# Altium footprint library RP2350A.PcbLib: 3 footprints
Each footprint in its own frame and in the unit in brackets; x right, y up, seen from the top. Pads: shape width x height; smd on the part's side, far side on the other; paste and mask are expansions set on the pad; w line width, h text height; cw(c..) or ccw(c..) is an arc to the next point about the centre after c.
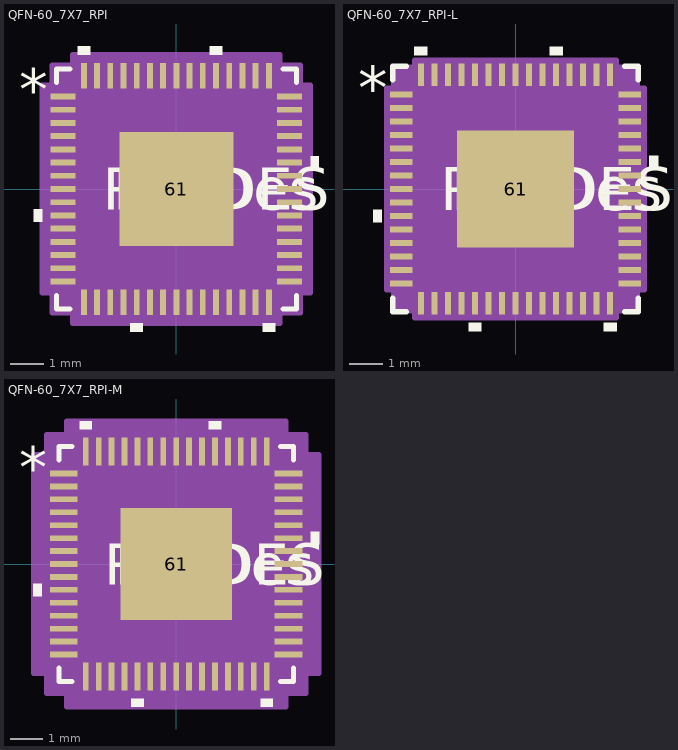
[diagram p0: the footprints below, top view; thin cyan lines are the x and y axes]

## QFN-60_7X7_RPI [mil]
pads (61):
  rect 30x7 smd paste+0 mask+0: 1(-135,110.24) 2(-135,94.49) 3(-135,78.74) 4(-135,62.99) 5(-135,47.24) 6(-135,31.5) 7(-135,15.75) 8(-135,0) 9(-135,-15.75) 10(-135,-31.5) 11(-135,-47.24) 12(-135,-62.99) 13(-135,-78.74) 14(-135,-94.49) 15(-135,-110.24) 31(135,-110.24) 32(135,-94.49) 33(135,-78.74) 34(135,-62.99) 35(135,-47.24) 36(135,-31.5) 37(135,-15.75) 38(135,0) 39(135,15.75) 40(135,31.5) 41(135,47.24) 42(135,62.99) 43(135,78.74) 44(135,94.49) 45(135,110.24)
  rect 7x30 smd paste+0 mask+0: 16(-110.24,-135) 17(-94.49,-135) 18(-78.74,-135) 19(-62.99,-135) 20(-47.24,-135) 21(-31.5,-135) 22(-15.75,-135) 23(0,-135) 24(15.75,-135) 25(31.5,-135) 26(47.24,-135) 27(62.99,-135) 28(78.74,-135) 29(94.49,-135) 30(110.24,-135) 46(110.24,135) 47(94.49,135) 48(78.74,135) 49(62.99,135) 50(47.24,135) 51(31.5,135) 52(15.75,135) 53(0,135) 54(-15.75,135) 55(-31.5,135) 56(-47.24,135) 57(-62.99,135) 58(-78.74,135) 59(-94.49,135) 60(-110.24,135)
  rect 136x136 smd paste-68 mask+0: 61(0,0)
Top Overlay:
  region: -160,-24 -170,-24 -170,-39 -160,-39
  region: -39.74,-160 -54.74,-160 -54.74,-170 -39.74,-170
  region: 117.74,-160 102.74,-160 102.74,-170 117.74,-170
  region: 160,39 170,39 170,24 160,24
  region: 54.74,160 39.74,160 39.74,170 54.74,170
  region: -102.74,160 -117.74,160 -117.74,170 -102.74,170
  lines w6: -143,-126.84 -143,-143 -126.84,-143 ; -143,126.84 -143,143 -126.84,143 ; 126.84,-143 143,-143 143,-126.84 ; 126.84,143 143,143 143,126.84
  text "*" at -187.5,93.11 h50
  text "RefDes" at -75,-25 h50
  text "REFDES" at -87.5,-25 h50
Top Paste:
  region: -3.94,64.06 -64.06,64.06 -64.06,3.94 -3.94,3.94
  region: -3.94,-3.94 -64.06,-3.94 -64.06,-64.06 -3.94,-64.06
  region: 64.06,64.06 3.94,64.06 3.94,3.94 64.06,3.94
  region: 64.06,-3.94 3.94,-3.94 3.94,-64.06 64.06,-64.06
Mechanical 13:
  drawing of 249 lines, arcs and shapes, not listed
  text "*" at -132.5,93.11 h50
  text "RefDes2" at -87.5,-25 h50
Mechanical 15:
  region: -123.74,-148 -148,-148 -148,-123.74 -160,-123.74 -160,123.74 -148,123.74 -148,148 -123.74,148 -123.74,160 123.74,160 123.74,148 148,148 148,123.74 160,123.74 160,-123.74 148,-123.74 148,-148 123.74,-148 123.74,-160 -123.74,-160
  lines w6: -160,-123.74 -148,-123.74 -148,-148 -123.74,-148 -123.74,-160 123.74,-160 123.74,-148 148,-148 148,-123.74 160,-123.74 160,123.74 148,123.74 148,148 123.74,148 123.74,160 -123.74,160 -123.74,148 -148,148 -148,123.74 -160,123.74 -160,-123.74
3D body "QFN-60_7X7_RPI.step": height 35.12, standoff 0, extent -137.99,-137.99 137.99,137.99

## QFN-60_7X7_RPI-L [mil]
pads (61):
  rect 26x7 smd paste+0 mask+0: 1(-133,110.24) 2(-133,94.49) 3(-133,78.74) 4(-133,62.99) 5(-133,47.24) 6(-133,31.5) 7(-133,15.75) 8(-133,0) 9(-133,-15.75) 10(-133,-31.5) 11(-133,-47.24) 12(-133,-62.99) 13(-133,-78.74) 14(-133,-94.49) 15(-133,-110.24) 31(133,-110.24) 32(133,-94.49) 33(133,-78.74) 34(133,-62.99) 35(133,-47.24) 36(133,-31.5) 37(133,-15.75) 38(133,0) 39(133,15.75) 40(133,31.5) 41(133,47.24) 42(133,62.99) 43(133,78.74) 44(133,94.49) 45(133,110.24)
  rect 7x26 smd paste+0 mask+0: 16(-110.24,-133) 17(-94.49,-133) 18(-78.74,-133) 19(-62.99,-133) 20(-47.24,-133) 21(-31.5,-133) 22(-15.75,-133) 23(0,-133) 24(15.75,-133) 25(31.5,-133) 26(47.24,-133) 27(62.99,-133) 28(78.74,-133) 29(94.49,-133) 30(110.24,-133) 46(110.24,133) 47(94.49,133) 48(78.74,133) 49(62.99,133) 50(47.24,133) 51(31.5,133) 52(15.75,133) 53(0,133) 54(-15.75,133) 55(-31.5,133) 56(-47.24,133) 57(-62.99,133) 58(-78.74,133) 59(-94.49,133) 60(-110.24,133)
  rect 136x136 smd paste-68 mask+0: 61(0,0)
Top Overlay:
  region: -156,-24 -166,-24 -166,-39 -156,-39
  region: -39.74,-156 -54.74,-156 -54.74,-166 -39.74,-166
  region: 117.74,-156 102.74,-156 102.74,-166 117.74,-166
  region: 156,39 166,39 166,24 156,24
  region: 54.74,156 39.74,156 39.74,166 54.74,166
  region: -102.74,156 -117.74,156 -117.74,166 -102.74,166
  lines w6: -143,-126.84 -143,-143 -126.84,-143 ; -143,126.84 -143,143 -126.84,143 ; 126.84,-143 143,-143 143,-126.84 ; 126.84,143 143,143 143,126.84
  text "*" at -183.5,93.11 h50
  text "RefDes" at -75,-25 h50
  text "REFDES" at -87.5,-25 h50
Top Paste:
  region: -3.94,64.06 -64.06,64.06 -64.06,3.94 -3.94,3.94
  region: -3.94,-3.94 -64.06,-3.94 -64.06,-64.06 -3.94,-64.06
  region: 64.06,64.06 3.94,64.06 3.94,3.94 64.06,3.94
  region: 64.06,-3.94 3.94,-3.94 3.94,-64.06 64.06,-64.06
Mechanical 13:
  drawing of 249 lines, arcs and shapes, not listed
  text "*" at -132.5,93.11 h50
  text "RefDes2" at -87.5,-25 h50
Mechanical 15:
  region: -117.74,-142 -142,-142 -142,-117.74 -150,-117.74 -150,117.74 -142,117.74 -142,142 -117.74,142 -117.74,150 117.74,150 117.74,142 142,142 142,117.74 150,117.74 150,-117.74 142,-117.74 142,-142 117.74,-142 117.74,-150 -117.74,-150
  lines w6: -150,-117.74 -142,-117.74 -142,-142 -117.74,-142 -117.74,-150 117.74,-150 117.74,-142 142,-142 142,-117.74 150,-117.74 150,117.74 142,117.74 142,142 117.74,142 117.74,150 -117.74,150 -117.74,142 -142,142 -142,117.74 -150,117.74 -150,-117.74
3D body "QFN-60_7X7_RPI.step": height 35.12, standoff 0, extent -137.99,-137.99 137.99,137.99

## QFN-60_7X7_RPI-M [mil]
pads (61):
  rect 34x7 smd paste+0 mask+0: 1(-137,110.24) 2(-137,94.49) 3(-137,78.74) 4(-137,62.99) 5(-137,47.24) 6(-137,31.5) 7(-137,15.75) 8(-137,0) 9(-137,-15.75) 10(-137,-31.5) 11(-137,-47.24) 12(-137,-62.99) 13(-137,-78.74) 14(-137,-94.49) 15(-137,-110.24) 31(137,-110.24) 32(137,-94.49) 33(137,-78.74) 34(137,-62.99) 35(137,-47.24) 36(137,-31.5) 37(137,-15.75) 38(137,0) 39(137,15.75) 40(137,31.5) 41(137,47.24) 42(137,62.99) 43(137,78.74) 44(137,94.49) 45(137,110.24)
  rect 7x34 smd paste+0 mask+0: 16(-110.24,-137) 17(-94.49,-137) 18(-78.74,-137) 19(-62.99,-137) 20(-47.24,-137) 21(-31.5,-137) 22(-15.75,-137) 23(0,-137) 24(15.75,-137) 25(31.5,-137) 26(47.24,-137) 27(62.99,-137) 28(78.74,-137) 29(94.49,-137) 30(110.24,-137) 46(110.24,137) 47(94.49,137) 48(78.74,137) 49(62.99,137) 50(47.24,137) 51(31.5,137) 52(15.75,137) 53(0,137) 54(-15.75,137) 55(-31.5,137) 56(-47.24,137) 57(-62.99,137) 58(-78.74,137) 59(-94.49,137) 60(-110.24,137)
  rect 136x136 smd paste-68 mask+0: 61(0,0)
Top Overlay:
  region: -164,-24 -174,-24 -174,-39 -164,-39
  region: -39.74,-164 -54.74,-164 -54.74,-174 -39.74,-174
  region: 117.74,-164 102.74,-164 102.74,-174 117.74,-174
  region: 164,39 174,39 174,24 164,24
  region: 54.74,164 39.74,164 39.74,174 54.74,174
  region: -102.74,164 -117.74,164 -117.74,174 -102.74,174
  lines w6: -143,-126.84 -143,-143 -126.84,-143 ; -143,126.84 -143,143 -126.84,143 ; 126.84,-143 143,-143 143,-126.84 ; 126.84,143 143,143 143,126.84
  text "*" at -191.5,93.11 h50
  text "RefDes" at -75,-25 h50
  text "REFDES" at -87.5,-25 h50
Top Paste:
  region: -3.94,64.06 -64.06,64.06 -64.06,3.94 -3.94,3.94
  region: -3.94,-3.94 -64.06,-3.94 -64.06,-64.06 -3.94,-64.06
  region: 64.06,64.06 3.94,64.06 3.94,3.94 64.06,3.94
  region: 64.06,-3.94 3.94,-3.94 3.94,-64.06 64.06,-64.06
Mechanical 13:
  drawing of 249 lines, arcs and shapes, not listed
  text "*" at -132.5,93.11 h50
  text "RefDes2" at -87.5,-25 h50
Mechanical 15:
  region: -133.74,-158 -158,-158 -158,-133.74 -174,-133.74 -174,133.74 -158,133.74 -158,158 -133.74,158 -133.74,174 133.74,174 133.74,158 158,158 158,133.74 174,133.74 174,-133.74 158,-133.74 158,-158 133.74,-158 133.74,-174 -133.74,-174
  lines w6: -174,-133.74 -158,-133.74 -158,-158 -133.74,-158 -133.74,-174 133.74,-174 133.74,-158 158,-158 158,-133.74 174,-133.74 174,133.74 158,133.74 158,158 133.74,158 133.74,174 -133.74,174 -133.74,158 -158,158 -158,133.74 -174,133.74 -174,-133.74
3D body "QFN-60_7X7_RPI.step": height 35.12, standoff 0, extent -137.99,-137.99 137.99,137.99